# EAGLE library part TPS62730DRY (library funkfinger)
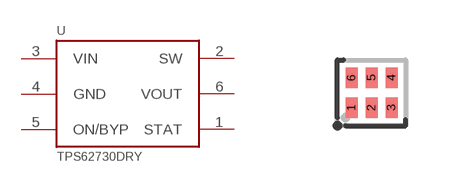
[diagram p2: symbol with the pads of SON-6; footprint SON-6]

Designator prefix -

## TPS62730DRY  [SON-6]
1  STAT
2  SW
3  VIN  pwr
4  GND  sup
5  ON/BYP
6  VOUT

## Footprint SON-6 (pad centres in mm)
smd 0.3 x 0.52: 1 -0.5,-0.35; 2 0,-0.35; 3 0.5,-0.35; 4 0.5,0.4; 5 0,0.4; 6 -0.5,0.4